# Altium schematic symbol library IC-components.SchLib: 2 symbols
Pins are listed as number, name and electrical type; pins without a type are passive.

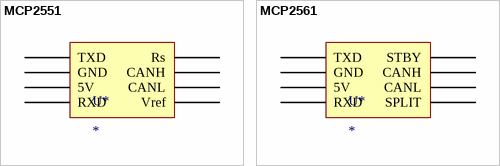
[diagram p0: symbols MCP2551 to MCP2561]

## MCP2551
designator U*
footprint MCP-8-SOIC (Microchip 8 SOIC package (MCP2551, MCP2561))
pins: 1 TXD, 2 GND, 3 5V, 4 RXD, 5 Vref, 6 CANL, 7 CANH, 8 Rs

## MCP2561
designator U*
pins: 1 TXD, 2 GND, 3 5V, 4 RXD, 5 SPLIT, 6 CANL, 7 CANH, 8 STBY